# Altium schematic symbol library Active-Diode.SchLib: 9 symbols
Pins are listed as number, name and electrical type; pins without a type are passive.

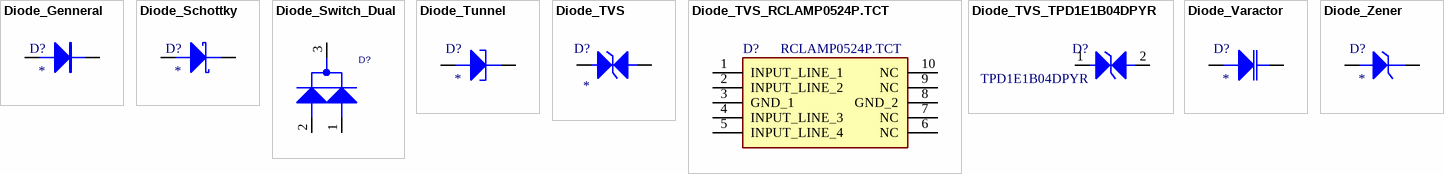
[diagram p0: symbols Diode_Genneral to Diode_Zener]

## Diode_Genneral
designator D?
普通二极管; Manufacturer_Name: *; Manufacturer_Part_Number: *
footprint DO-15
footprint DO-15L
footprint DO-15LV
footprint DO-15V
footprint DO-27
footprint DO-27V
footprint DO-35
footprint DO-35V
footprint DO-41
footprint DO-41G
footprint DO-41GV
footprint DO-41V
footprint DO-201AD
footprint DO-201ADV
footprint LL34 (玻封二极管)
footprint SOD-123 (塑封二极管)
footprint SOD-323 (塑封二极管)
footprint SOD-523 (塑封二极管)
footprint SMB_DO214AA (Molded Diode, 2-Leads, Body 4.31x3.62mm, IPC Medium Density)
footprint SMC_DO214AB (Molded Diode, 2-Leads, Body 6.88x5.90mm, IPC Medium Density)
footprint SMA_DO214AC (Molded Diode, 2-Leads, Body 4.30x2.61mm, IPC Medium Density)
pins: A, K

## Diode_Schottky
designator D?
肖特基二极管; Manufacturer_Name: *; Manufacturer_Part_Number: *
footprint SMB_DO214AA (Molded Diode, 2-Leads, Body 4.31x3.62mm, IPC Medium Density)
footprint SMA_DO214AC (Molded Diode, 2-Leads, Body 4.30x2.61mm, IPC Medium Density)
footprint SMC_DO214AB (Molded Diode, 2-Leads, Body 6.88x5.90mm, IPC Medium Density)
footprint SOD-523 (塑封二极管)
footprint SOD-323 (塑封二极管)
footprint SOD-123 (塑封二极管)
pins: A, K

## Diode_Switch_Dual
designator D?
1对开关二极管
pins: 1 A2, 2 A1, 3 K

## Diode_Tunnel
designator D?
隧道二极管; Manufacturer_Name: *; Manufacturer_Part_Number: *
footprint DO-15
footprint DO-15L
footprint DO-15LV
footprint DO-15V
footprint DO-27
footprint DO-27V
footprint DO-35
footprint DO-35V
footprint DO-41
footprint DO-41G
footprint DO-41GV
footprint DO-41V
footprint DO-201AD
footprint DO-201ADV
footprint LL34 (玻封二极管)
footprint SMA/DO-214AC (塑封二极管)
footprint SMB/DO-214AA (塑封二极管)
footprint SMC/DO-214AB (塑封二极管)
footprint SOD-123 (塑封二极管)
footprint SOD-323 (塑封二极管)
footprint SOD-523 (塑封二极管)
pins: A, K

## Diode_TVS
designator D?
双向瞬态抑制二极管; Manufacturer_Name: *; Manufacturer_Part_Number: *
footprint DO-15
footprint DO-15L
footprint DO-15LV
footprint DO-15V
footprint DO-27
footprint DO-27V
footprint DO-35
footprint DO-35V
footprint DO-41
footprint DO-41G
footprint DO-41GV
footprint DO-41V
footprint DO-201AD
footprint DO-201ADV
footprint LL34 (玻封二极管)
footprint SMA/DO-214AC (塑封二极管)
footprint SMB/DO-214AA (塑封二极管)
footprint SMC/DO-214AB (塑封二极管)
footprint SOD-123 (塑封二极管)
footprint SOD-323 (塑封二极管)
footprint SOD-523 (塑封二极管)
pins: A, K

## Diode_TVS_RCLAMP0524P.TCT
designator D?, comment RCLAMP0524P.TCT
静电和浪涌保护,HDMI USB接口保护; Manufacturer_Name: MSKSEMI(美森科); Manufacturer_Part_Number: RClamp0524P.TCT-MS; LCSC: C3008054
footprint RCLAMP0524P
pins: 1 INPUT_LINE_1, 2 INPUT_LINE_2, 3 GND_1, 4 INPUT_LINE_3, 5 INPUT_LINE_4, 6 NC, 7 NC, 8 GND_2, 9 NC, 10 NC

## Diode_TVS_TPD1E1B04DPYR
designator D?, comment TPD1E1B04DPYR
双向瞬态抑制二极管,USB接口保护; Manufacturer_Name: TI(德州仪器); Manufacturer_Part_Number: TPD1E1B04DPYR; LCSC: C779408
footprint X1-SON-2(0.6x1)
pins: 1, 2

## Diode_Varactor
designator D?
变容二极管; Manufacturer_Name: *; Manufacturer_Part_Number: *
footprint DO-15
footprint DO-15L
footprint DO-15LV
footprint DO-15V
footprint DO-27
footprint DO-27V
footprint DO-35
footprint DO-35V
footprint DO-41
footprint DO-41G
footprint DO-41GV
footprint DO-41V
footprint DO-201AD
footprint DO-201ADV
footprint LL34 (玻封二极管)
footprint SMA/DO-214AC (塑封二极管)
footprint SMB/DO-214AA (塑封二极管)
footprint SMC/DO-214AB (塑封二极管)
footprint SOD-123 (塑封二极管)
footprint SOD-323 (塑封二极管)
footprint SOD-523 (塑封二极管)
pins: A, K

## Diode_Zener
designator D?
稳压二极管; Manufacturer_Name: *; Manufacturer_Part_Number: *
footprint DO-15
footprint DO-15L
footprint DO-15LV
footprint DO-15V
footprint DO-27
footprint DO-27V
footprint DO-35
footprint DO-35V
footprint DO-41
footprint DO-41G
footprint DO-41GV
footprint DO-41V
footprint DO-201AD
footprint DO-201ADV
footprint LL34 (玻封二极管)
footprint SMA/DO-214AC (塑封二极管)
footprint SMB/DO-214AA (塑封二极管)
footprint SMC/DO-214AB (塑封二极管)
footprint SOD-123 (塑封二极管)
footprint SOD-323 (塑封二极管)
footprint SOD-523 (塑封二极管)
pins: A, K